# Altium footprint library WeAct-ESP32-S3-A.PcbLib: 1 footprints
Each footprint in its own frame and in the unit in brackets; x right, y up, seen from the top. Pads: shape width x height; smd on the part's side, far side on the other; paste and mask are expansions set on the pad; w line width, h text height; cw(c..) or ccw(c..) is an arc to the next point about the centre after c.
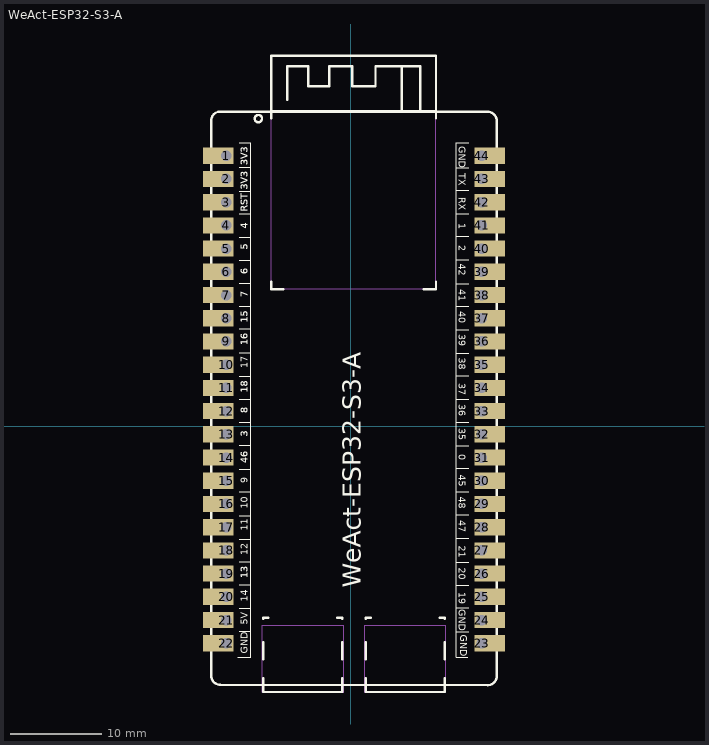
[diagram p0: the footprint, top view; thin cyan lines are the x and y axes]

## WeAct-ESP32-S3-A [mil]
pads (44):
  rect 133x70 hole 45 copper offset -35,0 paste+0 mask+2: 1(-535,1165) 2(-535,1065) 3(-535,965) 4(-535,865) 5(-535,765) 6(-535,665) 7(-535,565) 8(-535,465) 9(-535,365) 10(-535,265) 11(-535,165) 12(-535,65) 13(-535,-35) 14(-535,-135) 15(-535,-235) 16(-535,-335) 17(-535,-435) 18(-535,-535) 19(-535,-635) 20(-535,-735) 21(-535,-835) 22(-535,-935)
  rect 133x70 hole 45 copper offset 35,0 paste+0 mask+2: 23(565,-935) 24(565,-835) 25(565,-735) 26(565,-635) 27(565,-535) 28(565,-435) 29(565,-335) 30(565,-235) 31(565,-135) 32(565,-35) 33(565,65) 34(565,165) 35(565,265) 36(565,365) 37(565,465) 38(565,565) 39(565,665) 40(565,765) 41(565,865) 42(565,965) 43(565,1065) 44(565,1165)
Top Overlay:
  circle w10: c-397,1325 r15.81
  lines w5: 455,-885.28 510,-885.28 ; 455,-781.78 510,-781.78 ; 455,-685.64 510,-685.64 ; 455,-586.36 510,-586.36 ; 455,-483.07 510,-483.07 ; 455,-382.35 510,-382.35 ; 455,-283.07 510,-283.07 ; 455,-181.64 510,-181.64 ; 455,-83.62 510,-83.62 ; 455,16.38 510,16.38 ; 455,116.38 510,116.38 ; 455,217.52 510,217.52 ; 455,313.94 510,313.94 ; 455,416.09 510,416.09 ; 455,516.66 510,516.66 ; 455,614.52 510,614.52 ; 455,716.66 510,716.66 ; 455,817.43 510,817.43 ; 455,915.5 510,915.5 ; 455,1016.5 510,1016.5 ; 455,1112.51 510,1112.51 ; 505,-995 455,-995 455,1220 510,1220 ; -480,-883.15 -430,-883.15 ; -480,-883.15 -430,-883.15 ; -480,-883.15 -430,-883.15 ; -480,-784.15 -430,-784.15 ; -480,-784.15 -430,-784.15 ; -480,-784.15 -430,-784.15 ; -480,-682.15 -430,-682.15 ; -480,-682.15 -430,-682.15 ; -480,-682.15 -430,-682.15 ; -480,-584.15 -430,-584.15 ; -480,-584.15 -430,-584.15 ; -480,-584.15 -430,-584.15 ; -480,-487.62 -430,-487.62 ; -480,-487.62 -430,-487.62 ; -480,-487.62 -430,-487.62 ; -480,-385.62 -430,-385.62 ; -480,-385.62 -430,-385.62 ; -480,-385.62 -430,-385.62 ; -480,-281.62 -430,-281.62 ; -480,-281.62 -430,-281.62 ; -480,-281.62 -430,-281.62 ; -480,-186.12 -430,-186.12 ; -480,-186.12 -430,-186.12 ; -480,-186.12 -430,-186.12 ; -480,-81.12 -430,-81.12 ; -480,-81.12 -430,-81.12 ; -480,-81.12 -430,-81.12 ; -480,17.24 -430,17.24 ; -480,17.24 -430,17.24 ; -480,17.24 -430,17.24 ; -480,115.9 -430,115.9 ; -480,115.9 -430,115.9 ; -480,115.9 -430,115.9 ; -480,215.9 -430,215.9 ; -480,215.9 -430,215.9 ; -480,215.9 -430,215.9 ; -480,315.9 -430,315.9 ; -480,315.9 -430,315.9 ; -480,315.9 -430,315.9 ; -480,419.9 -430,419.9 ; -480,419.9 -430,419.9 ; -480,419.9 -430,419.9 ; -480,517.53 -430,517.53 ; -480,517.53 -430,517.53 ; -480,517.53 -430,517.53 ; -480,615.53 -430,615.53 ; -480,615.53 -430,615.53 ; -480,615.53 -430,615.53 ; -480,714.54 -430,714.54 ; -480,714.54 -430,714.54 ; -480,714.54 -430,714.54 ; -480,814.96 -430,814.96 ; -480,814.96 -430,814.96 ; -480,814.96 -430,814.96 ; -480,914.96 -430,914.96 ; -480,914.96 -430,914.96 ; -480,914.96 -430,914.96 ; -480,1012.2 -430,1012.2 ; -480,1012.2 -430,1012.2 ; -480,1012.2 -430,1012.2 ; -480,1116.48 -430,1116.48 ; -480,1116.48 -430,1116.48 ; -480,1116.48 -430,1116.48 ; -430,-995 -485,-995 -430,-995 ; -430,-995 -430,1220 ; -430,-995 -430,1220 ; -430,1220 -480,1220 -430,1220
  lines w10: -570,1355 595,1355 ; -564.25,-1115 600,-1115 ; -560.63,-1114.37 cw(c-560.63,-1075) -600,-1075 -600,1316.33 cw(c-560.63,1316.33) -560.63,1355.7 ; -375.29,-1085.89 -375.29,-1145 -35.29,-1145 -35.29,-1085.89 ; -375.29,-1004.7 -375.29,-931.16 ; -375.29,-830.29 -375.29,-825 -353.17,-825 ; -341.33,623.38 -341.33,590 -288.82,590 ; -341.33,1327.01 -341.33,1595.47 367.33,1595.47 ; -341.33,1357.69 368,1357.69 ; -272,1405 -272,1550 -182,1550 -182,1465 -92,1465 -92,1550 8,1550 8,1465 108,1465 108,1550 220.29,1550 220.29,1357.69 ; -57.61,-825 -35.29,-825 -35.29,-830.29 ; -35.29,-1004.7 -35.29,-931.16 ; 65.29,-1085.89 65.29,-1145 405.29,-1145 405.29,-1085.89 ; 65.29,-1004.7 65.29,-931.16 ; 65.29,-830.29 65.29,-825 87.4,-825 ; 212.29,1550 300.29,1550 300.29,1357.69 ; 314.82,590 368,590 368,623.38 ; 368,1327.01 368,1595 ; 382.97,-825 405.29,-825 405.29,-830.29 ; 405.29,-1004.7 405.29,-931.16 ; 590.63,-1115.7 ccw(c590.63,-1076.33) 630,-1076.33 630,1315 ccw(c590.63,1315) 590.63,1354.37
  text "WeAct-ESP32-S3-A" at 43.36,-696.11 h77.88
  text "13" at -441.73,-655.45 h30.62
  text "46" at -441.73,-160.45 h30.62
  text "3" at -441.85,-45 h30.38
  text "8" at -441.85,55 h30.38
  text "18" at -441.73,144.55 h30.62
  text "16" at -441.73,349.55 h30.62
  text "15" at -441.73,444.55 h30.62
  text "7" at -441.85,555 h30.38
  text "6" at -441.85,655 h30.38
  text "5" at -441.85,760 h30.38
  text "4" at -441.85,850 h30.38
  text "RST" at -441.73,924.18 h30.62
  text "3V3" at -441.73,1019.18 h30.62
  text "3V3" at -441.73,1124.18 h30.62
  text "3V3" at -441.73,1124.18 h30.62
  text "3V3" at -441.73,1019.18 h30.62
  text "RST" at -441.73,924.18 h30.62
  text "4" at -441.85,850 h30.38
  text "5" at -441.85,760 h30.38
  text "6" at -441.85,655 h30.38
  text "7" at -441.85,555 h30.38
  text "15" at -441.73,444.55 h30.62
  text "16" at -441.73,349.55 h30.62
  text "18" at -441.73,144.55 h30.62
  text "8" at -441.85,55 h30.38
  text "3" at -441.85,-45 h30.38
  text "46" at -441.73,-160.45 h30.62
  text "13" at -441.73,-655.45 h30.62
  text "GND" at 471.73,-899.18 h30.62
  text "GND" at 466.73,-789.18 h30.62
  text "20" at 466.73,-609.55 h30.62
  text "19" at 466.73,-714.55 h30.62
  text "21" at 466.73,-514.55 h30.62
  text "48" at 466.73,-304.55 h30.62
  text "47" at 466.73,-404.55 h30.62
  text "45" at 466.73,-209.55 h30.62
  text "0" at 466.85,-120 h30.38
  text "40" at 466.73,495.45 h30.62
  text "39" at 466.73,395.45 h30.62
  text "38" at 466.73,295.45 h30.62
  text "37" at 466.73,185.45 h30.62
  text "36" at 466.73,95.45 h30.62
  text "35" at 466.73,-9.55 h30.62
  text "41" at 466.73,590.45 h30.62
  text "42" at 466.73,700.45 h30.62
  text "2" at 466.85,780 h30.38
  text "1" at 466.85,875 h30.38
  text "RX" at 466.73,985.45 h30.62
  text "TX" at 466.73,1090.45 h30.62
  text "GND" at 466.73,1205.82 h30.62
  text "GND" at -441.73,-980.82 h30.62
  text "5V" at -441.73,-855.45 h30.62
  text "10" at -441.73,-355.45 h30.62
  text "14" at -441.73,-755.45 h30.62
  text "13" at -441.73,-655.45 h30.62
  text "12" at -441.73,-555.45 h30.62
  text "11" at -441.73,-450.45 h30.62
  text "9" at -441.85,-245 h30.38
  text "46" at -441.73,-160.45 h30.62
  text "3" at -441.85,-45 h30.38
  text "8" at -441.85,55 h30.38
  text "18" at -441.73,144.55 h30.62
  text "17" at -441.73,249.55 h30.62
  text "16" at -441.73,349.55 h30.62
  text "15" at -441.73,444.55 h30.62
  text "7" at -441.85,555 h30.38
  text "6" at -441.85,655 h30.38
  text "5" at -441.85,760 h30.38
  text "4" at -441.85,850 h30.38
  text "RST" at -441.73,924.18 h30.62
  text "3V3" at -441.73,1019.18 h30.62
  text "3V3" at -441.73,1124.18 h30.62
Mechanical 15:
  lines w2: -380.29,-1145.79 -380.29,-858.39 -29.9,-858.39 -29.9,-1145.79 -380.29,-1145.79 ; -341.33,591.53 367.33,591.53 367.33,1595.47 -341.33,1595.47 -341.33,591.53 ; 60.29,-1145.79 60.29,-858.39 410.68,-858.39 410.68,-1145.79 60.29,-1145.79